# Altium footprint library 686 3xx 124 422 (1).PcbLib: 13 footprints
Each footprint in its own frame and in the unit in brackets; x right, y up, seen from the top. Pads: shape width x height; smd on the part's side, far side on the other; paste and mask are expansions set on the pad; w line width, h text height; cw(c..) or ccw(c..) is an arc to the next point about the centre after c.
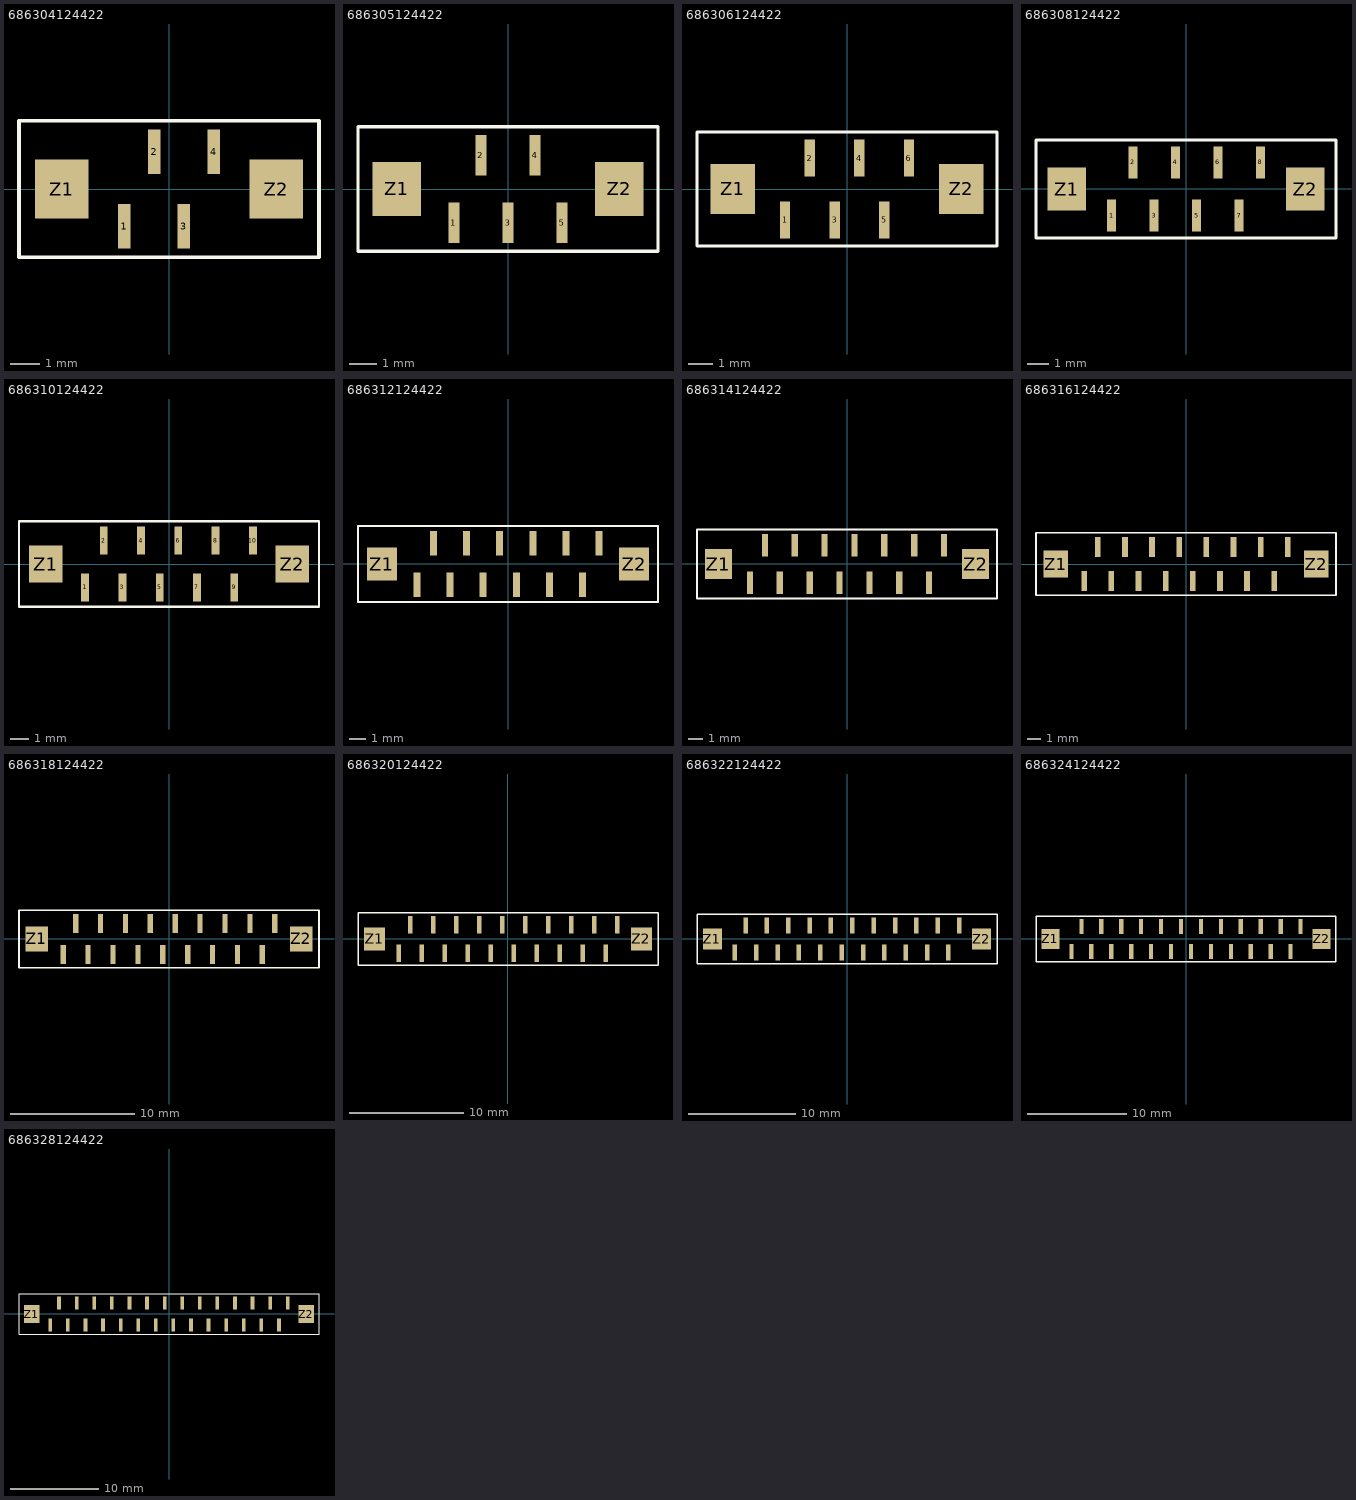
[diagram p0: the footprints below, top view; thin cyan lines are the x and y axes]

## 686304124422 [mm] "4 pins T&R with cap"
height 4.7
pads (6):
  rect 0.42x1.5 smd: 1(-1.5,-1.25) 2(-0.5,1.25) 3(0.5,-1.25) 4(1.5,1.25)
  rect 1.8x2 smd: Z1(-3.61,0) Z2(3.61,0)
Top Overlay:
  lines w0.127: -5.05,-2.3 -5.05,2.3 5.05,2.3 5.05,-2.3 -5.05,-2.3
3D body: height 5.12, standoff -0.03, extent -5,-1.75 5,1.75

## 686305124422 [mm] "5 pins T&R with cap"
height 4.7
pads (7):
  rect 0.42x1.5 smd: 1(-2,-1.25) 2(-1,1.25) 3(0,-1.25) 4(1,1.25) 5(2,-1.25)
  rect 1.8x2 smd: Z1(-4.11,0) Z2(4.11,0)
Top Overlay:
  lines w0.127: -5.55,-2.3 5.55,-2.3 5.55,2.3 -5.55,2.3 -5.55,-2.3
3D body: height 5.12, standoff -0.03, extent -5.5,-1.75 5.5,1.75

## 686306124422 [mm] "6 pins T&R with cap"
height 4.7
pads (8):
  rect 0.42x1.5 smd: 1(-2.5,-1.25) 2(-1.5,1.25) 3(-0.5,-1.25) 4(0.5,1.25) 5(1.5,-1.25) 6(2.5,1.25)
  rect 1.8x2 smd: Z1(-4.61,0) Z2(4.61,0)
Top Overlay:
  lines w0.127: -6.05,-2.3 6.05,-2.3 6.05,2.3 -6.05,2.3 -6.05,-2.3
3D body: height 5.12, standoff -0.03, extent -6,-1.75 6,1.75

## 686308124422 [mm] "8 pins T&R with cap"
height 4.7
pads (10):
  rect 0.42x1.5 smd: 1(-3.5,-1.25) 2(-2.5,1.25) 3(-1.5,-1.25) 4(-0.5,1.25) 5(0.5,-1.25) 6(1.5,1.25) 7(2.5,-1.25) 8(3.5,1.25)
  rect 1.8x2 smd: Z1(-5.61,0) Z2(5.61,0)
Top Overlay:
  lines w0.127: -7.05,-2.3 -7.05,2.3 7.05,2.3 7.05,-2.3 -7.05,-2.3
3D body: height 5.12, standoff -0.03, extent -7,-1.75 7,1.75

## 686310124422 [mm] "10 pins T&R with cap"
height 4.7
pads (12):
  rect 0.42x1.5 smd: 1(-4.5,-1.25) 2(-3.5,1.25) 3(-2.5,-1.25) 4(-1.5,1.25) 5(-0.5,-1.25) 6(0.5,1.25) 7(1.5,-1.25) 8(2.5,1.25) 9(3.5,-1.25) 10(4.5,1.25)
  rect 1.8x2 smd: Z1(-6.61,0) Z2(6.61,0)
Top Overlay:
  lines w0.127: -8.05,-2.3 8.05,-2.3 8.05,2.3 -8.05,2.3 -8.05,-2.3
3D body: height 5.12, standoff -0.03, extent -8,-1.75 8,1.75

## 686312124422 [mm] "12 pins T&R with cap"
height 4.7
pads (14):
  rect 0.42x1.5 smd: 1(-5.5,-1.25) 2(-4.5,1.25) 3(-3.5,-1.25) 4(-2.5,1.25) 5(-1.5,-1.25) 6(-0.5,1.25) 7(0.5,-1.25) 8(1.5,1.25) 9(2.5,-1.25) 10(3.5,1.25) 11(4.5,-1.25) 12(5.5,1.25)
  rect 1.8x2 smd: Z1(-7.61,0) Z2(7.61,0)
Top Overlay:
  lines w0.127: -9.05,-2.3 9.05,-2.3 9.05,2.3 -9.05,2.3 -9.05,-2.3
3D body: height 5.12, standoff -0.03, extent -9,-1.75 9,1.75

## 686314124422 [mm] "14 pins T&R with cap"
height 4.7
pads (16):
  rect 0.42x1.5 smd: 1(-6.5,-1.25) 2(-5.5,1.25) 3(-4.5,-1.25) 4(-3.5,1.25) 5(-2.5,-1.25) 6(-1.5,1.25) 7(-0.5,-1.25) 8(0.5,1.25) 9(1.5,-1.25) 10(2.5,1.25) 11(3.5,-1.25) 12(4.5,1.25) 13(5.5,-1.25) 14(6.5,1.25)
  rect 1.8x2 smd: Z1(-8.61,0) Z2(8.61,0)
Top Overlay:
  lines w0.127: -10.05,-2.3 -10.05,2.3 10.05,2.3 10.05,-2.3 -10.05,-2.3
3D body: height 5.12, standoff -0.03, extent -10,-1.75 10,1.75

## 686316124422 [mm] "16 pins T&R with cap"
height 4.8
pads (18):
  rect 0.42x1.5 smd: 1(-7.5,-1.25) 2(-6.5,1.25) 3(-5.5,-1.25) 4(-4.5,1.25) 5(-3.5,-1.25) 6(-2.5,1.25) 7(-1.5,-1.25) 8(-0.5,1.25) 9(0.5,-1.25) 10(1.5,1.25) 11(2.5,-1.25) 12(3.5,1.25) 13(4.5,-1.25) 14(5.5,1.25) 15(6.5,-1.25) 16(7.5,1.25)
  rect 1.8x2 smd: Z1(-9.61,0) Z2(9.61,0)
Top Overlay:
  lines w0.127: -11.05,-2.3 -11.05,2.3 11.05,2.3 11.05,-2.3 -11.05,-2.3
3D body: height 5.22, standoff -0.03, extent -11,-1.75 11,1.75

## 686318124422 [mm] "18 pins T&R with cap"
height 4.8
pads (20):
  rect 0.42x1.5 smd: 1(-8.5,-1.25) 2(-7.5,1.25) 3(-6.5,-1.25) 4(-5.5,1.25) 5(-4.5,-1.25) 6(-3.5,1.25) 7(-2.5,-1.25) 8(-1.5,1.25) 9(-0.5,-1.25) 10(0.5,1.25) 11(1.5,-1.25) 12(2.5,1.25) 13(3.5,-1.25) 14(4.5,1.25) 15(5.5,-1.25) 16(6.5,1.25) 17(7.5,-1.25) 18(8.5,1.25)
  rect 1.8x2 smd: Z1(-10.61,0) Z2(10.61,0)
Top Overlay:
  lines w0.127: -12.05,-2.3 12.05,-2.3 12.05,2.3 -12.05,2.3 -12.05,-2.3
3D body: height 5.22, standoff -0.03, extent -12,-1.75 12,1.75

## 686320124422 [mm] "20 pins T&R with cap"
height 4.9
pads (22):
  rect 0.42x1.5 smd: 1(-9.5,-1.25) 2(-8.5,1.25) 3(-7.5,-1.25) 4(-6.5,1.25) 5(-5.5,-1.25) 6(-4.5,1.25) 7(-3.5,-1.25) 8(-2.5,1.25) 9(-1.5,-1.25) 10(-0.5,1.25) 11(0.5,-1.25) 12(1.5,1.25) 13(2.5,-1.25) 14(3.5,1.25) 15(4.5,-1.25) 16(5.5,1.25) 17(6.5,-1.25) 18(7.5,1.25) 19(8.5,-1.25) 20(9.5,1.25)
  rect 1.8x2 smd: Z1(-11.61,0) Z2(11.61,0)
Top Overlay:
  lines w0.127: -13.05,-2.3 -13.05,2.3 13.05,2.3 13.05,-2.3 -13.05,-2.3
3D body: height 5.22, standoff -0.03, extent -13,-1.75 13,1.75

## 686322124422 [mm] "22 pins T&R with cap"
height 4.9
pads (24):
  rect 0.42x1.5 smd: 1(-10.5,-1.25) 2(-9.5,1.25) 3(-8.5,-1.25) 4(-7.5,1.25) 5(-6.5,-1.25) 6(-5.5,1.25) 7(-4.5,-1.25) 8(-3.5,1.25) 9(-2.5,-1.25) 10(-1.5,1.25) 11(-0.5,-1.25) 12(0.5,1.25) 13(1.5,-1.25) 14(2.5,1.25) 15(3.5,-1.25) 16(4.5,1.25) 17(5.5,-1.25) 18(6.5,1.25) 19(7.5,-1.25) 20(8.5,1.25) 21(9.5,-1.25) 22(10.5,1.25)
  rect 1.8x2 smd: Z1(-12.61,0) Z2(12.61,0)
Top Overlay:
  lines w0.127: -14.05,-2.3 14.05,-2.3 14.05,2.3 -14.05,2.3 -14.05,-2.3
3D body: height 5.32, standoff -0.03, extent -14,-1.75 14,1.75

## 686324124422 [mm] "24 pins T&R with cap"
height 4.9
pads (26):
  rect 0.42x1.5 smd: 1(-11.5,-1.25) 2(-10.5,1.25) 3(-9.5,-1.25) 4(-8.5,1.25) 5(-7.5,-1.25) 6(-6.5,1.25) 7(-5.5,-1.25) 8(-4.5,1.25) 9(-3.5,-1.25) 10(-2.5,1.25) 11(-1.5,-1.25) 12(-0.5,1.25) 13(0.5,-1.25) 14(1.5,1.25) 15(2.5,-1.25) 16(3.5,1.25) 17(4.5,-1.25) 18(5.5,1.25) 19(6.5,-1.25) 20(7.5,1.25) 21(8.5,-1.25) 22(9.5,1.25) 23(10.5,-1.25) 24(11.5,1.25)
  rect 1.8x2 smd: Z1(-13.61,0) Z2(13.61,0)
Top Overlay:
  lines w0.127: -15.05,-2.3 -15.05,2.3 15.05,2.3 15.05,-2.3 -15.05,-2.3
3D body: height 5.32, standoff -0.03, extent -15,-1.75 15,1.75

## 686328124422 [mm] "28 pins T&R with cap"
height 4.9
pads (30):
  rect 0.42x1.5 smd: 1(-13.5,-1.25) 2(-12.5,1.25) 3(-11.5,-1.25) 4(-10.5,1.25) 5(-9.5,-1.25) 6(-8.5,1.25) 7(-7.5,-1.25) 8(-6.5,1.25) 9(-5.5,-1.25) 10(-4.5,1.25) 11(-3.5,-1.25) 12(-2.5,1.25) 13(-1.5,-1.25) 14(-0.5,1.25) 15(0.5,-1.25) 16(1.5,1.25) 17(2.5,-1.25) 18(3.5,1.25) 19(4.5,-1.25) 20(5.5,1.25) 21(6.5,-1.25) 22(7.5,1.25) 23(8.5,-1.25) 24(9.5,1.25) 25(10.5,-1.25) 26(11.5,1.25) 27(12.5,-1.25) 28(13.5,1.25)
  rect 1.8x2 smd: Z1(-15.61,0) Z2(15.61,0)
Top Overlay:
  lines w0.127: -17.05,-2.3 -17.05,2.3 17.05,2.3 17.05,-2.3 -17.05,-2.3
3D body: height 5.32, standoff -0.03, extent -17,-1.75 17,1.75